# Altium schematic symbol library BTS711.SchLib: 1 symbol
Pins are listed as number, name and electrical type; pins without a type are passive.

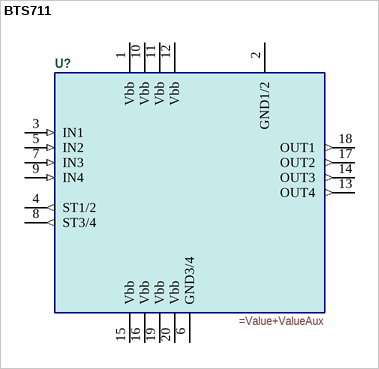
[diagram p0: symbol BTS711]

## BTS711
designator U?
=Description
pins: 1 Vbb (power), 2 GND1/2 (power), 3 IN1 (in), 4 ST1/2 (out), 5 IN2 (in), 6 GND3/4 (power), 7 IN3 (in), 8 ST3/4 (out), 9 IN4 (in), 10 Vbb (power), 11 Vbb (power), 12 Vbb (power), 13 OUT4 (out), 14 OUT3 (out), 15 Vbb (power), 16 Vbb (power), 17 OUT2 (out), 18 OUT1 (out), 19 Vbb (power), 20 Vbb (power)